# Altium integrated library dwatch.IntLib: 7 symbols
Pins are listed as number, name and electrical type; pins without a type are passive.

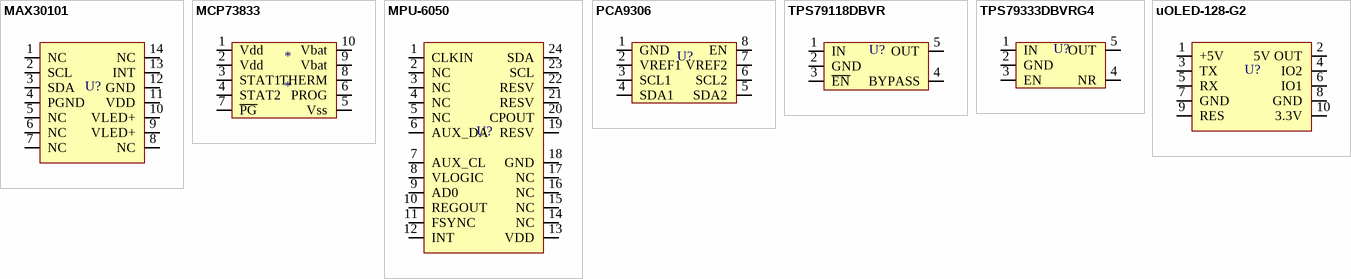
[diagram p0: symbols MAX30101 to uOLED-128-G2]

## MAX30101
designator U?  (value not drawn)
Digikey: MAX30101EFD+T
footprint MAX30101EFD
pins: 1 NC, 2 SCL, 3 SDA, 4 PGND, 5 NC, 6 NC, 7 NC, 8 NC, 9 VLED+, 10 VLED+, 11 VDD, 12 GND, 13 INT, 14 NC

## MCP73833
designator *
footprint MCP73833 (TSSOP, 10-Leads, Body 3,00x3,00mm, Pitch 0,50mm, IPC Medium Density)
pins: 1 Vdd, 2 Vdd, 3 STAT1, 4 STAT2, 5 Vss, 6 PROG, 7 ~{PG}, 8 THERM, 9 Vbat, 10 Vbat

## MPU-6050
designator U?  (value not drawn)
Digikey: 1428-1007-1-ND
footprint MPU6050_QNF24 (QFN, 24-Leads, Body 4,00x4,00mm, Pitch 0,50mm, Thermal Pad 2,60x2,70mm, IPC Medium Density)
pins: 1 CLKIN, 2 NC, 3 NC, 4 NC, 5 NC, 6 AUX_DA, 7 AUX_CL, 8 VLOGIC, 9 AD0, 10 REGOUT, 11 FSYNC, 12 INT, 13 VDD, 14 NC, 15 NC, 16 NC, 17 NC, 18 GND, 19 RESV, 20 CPOUT, 21 RESV, 22 RESV, 23 SCL, 24 SDA

## PCA9306
designator U?  (value not drawn)
digikey: 568-4215-1-ND
footprint PCA9306 (SOIC, 8-Leads, Body 4,90x3,90mm, Pitch 1,27mm, IPC Medium Density)
pins: 1 GND, 2 VREF1, 3 SCL1, 4 SDA1, 5 SDA2, 6 SCL2, 7 VREF2, 8 EN

## TPS79118DBVR
designator U?  (value not drawn)
Digikey: 296-11865-1-ND
footprint SOT23-5 (SOT23, 5-Leads, Body 2,90x2,80mm, Pitch 0,95mm, IPC Medium Density)
pins: 1 IN, 2 GND, 3 ~{EN}, 4 BYPASS, 5 OUT

## TPS79333DBVRG4
designator U?  (value not drawn)
Digikey: TPS79333DBVRG4Q1
footprint SOT23-5 (SOT23, 5-Leads, Body 2,90x2,80mm, Pitch 0,95mm, IPC Medium Density)
pins: 1 IN, 2 GND, 3 EN, 4 NR, 5 OUT

## uOLED-128-G2
designator U?  (value not drawn)
farnell: UOLED-128-G2
footprint uOLED-128-G2
pins: 1 +5V, 2 5V OUT, 3 TX, 4 IO2, 5 RX, 6 IO1, 7 GND, 8 GND, 9 RES, 10 3.3V